# EAGLE library part WH1602B-NYG-CT (library masterkit)
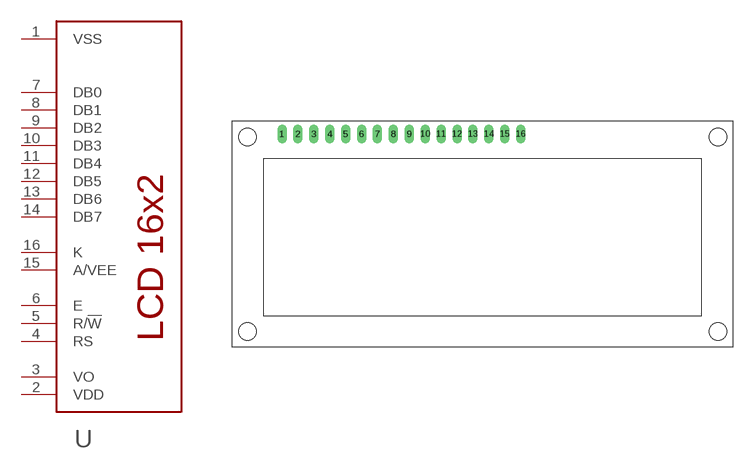
[diagram p0: symbol with the pads of WH1602B-NYG-CT; footprint WH1602B-NYG-CT]

Designator prefix -

## WH1602B-NYG-CT  [WH1602B-NYG-CT]
1  VSS
2  VDD
3  VO
4  RS
5  R/!W
6  E
7  DB0
8  DB1
9  DB2
10  DB3
11  DB4
12  DB5
13  DB6
14  DB7
15  A/VEE
16  K

## Footprint WH1602B-NYG-CT (pad centres in mm)
drill 1 long: 1 8,34; 2 10.54,34; 3 13.08,34; 4 15.62,34; 5 18.16,34; 6 20.7,34; 7 23.24,34; 8 25.78,34; 9 28.32,34; 10 30.86,34; 11 33.4,34; 12 35.94,34; 13 38.48,34; 14 41.02,34; 15 43.56,34; 16 46.1,34
hole 2.8 at 2.5,2.5
hole 2.8 at 2.5,33.5
hole 2.8 at 77.6,2.5
hole 2.8 at 77.6,33.5